# Altium schematic symbol library PCB_Project.SCHLIB: 5 symbols
Pins are listed as number, name and electrical type; pins without a type are passive.

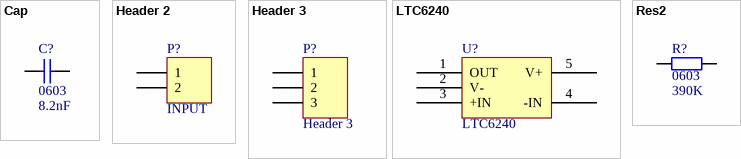
[diagram p0: symbols Cap to Res2]

## Cap
designator C?, comment 0603  value 8.2nF
Capacitor
footprint J1-0603 (Chip Resistor, Body 1.6x0.8mm, IPC High Density)
pins: 1, 2

## Header 2
designator P?, comment INPUT
Header, 2-Pin
footprint HDR1X2 (Connector; Header; 2 Position)
pins: 1, 2

## Header 3
designator P?
Header, 3-Pin
footprint HDR1X3 (Connector; Header; 3 Position)
pins: 1, 2, 3

## LTC6240
designator U?
low noise jfet opamp
footprint LTC6240_SOT23 (SOT23, 5-Leads, Body 2,9x2,8mm (max), Pitch 0,95mm, IPC Medium Density)
pins: 1 OUT, 2 V-, 3 +IN, 4 -IN, 5 V+

## Res2
designator R?, comment 0603  value 390K
Resistor
footprint 1608[0603] (Chip Capacitor, Body 1.6x0.8mm, IPC High Density)
pins: 1, 2